# Altium footprint library RPSLib_PMIC.PcbLib: 19 footprints (part 2 of 2)
Each footprint in its own frame and in the unit in brackets; x right, y up, seen from the top. Pads: shape width x height; smd on the part's side, far side on the other; paste and mask are expansions set on the pad; w line width, h text height; cw(c..) or ccw(c..) is an arc to the next point about the centre after c.
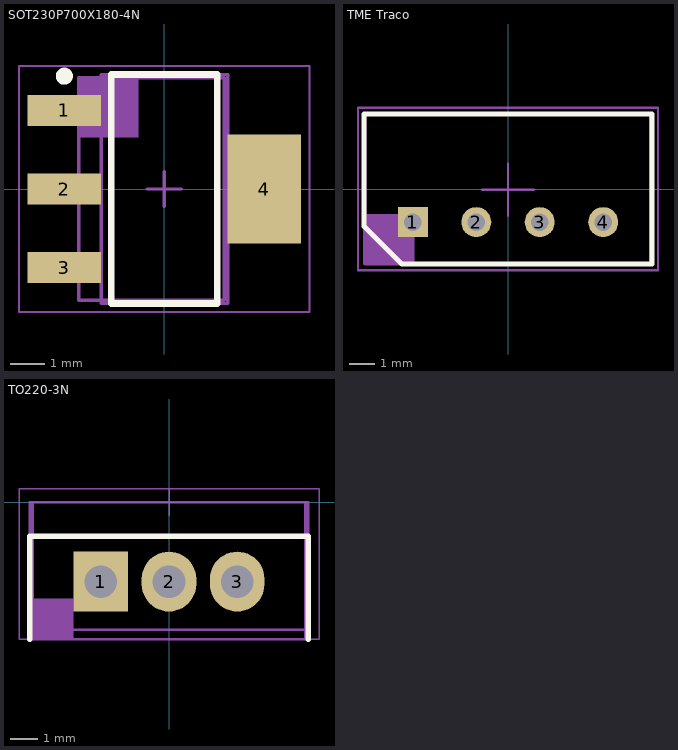
[diagram p1: the footprints below, top view; thin cyan lines are the x and y axes]

## SOT230P700X180-4N [mm] "SOT223, 4-Leads, Body 6,50x7,00mm (avg), Pitch 2,30mm, IPC Medium Density"
height 1.8
pads (4):
  rect 2.15x0.9 smd: 1(-2.925,2.3) 2(-2.925,0) 3(-2.925,-2.3)
  rect 2.15x3.2 smd: 4(2.925,0)
Top Overlay:
  circle w0.25: c-2.925,3.3 r0.125
  lines w0.2: -1.55,-3.35 -1.55,3.35 1.55,3.35 1.55,-3.35 -1.55,-3.35
Mechanical 1:
  rectangle: -2.5,1.5 -0.75,3.25
  lines w0.1: 1.75,-1.5 1.75,1.5 ; 1.75,-1.5 3.75,-1.5 3.75,1.5 1.75,1.5 ; 1.75,-1.5 1.75,-3.25 -2.5,-3.25 -2.5,3.25 1.75,3.25 1.75,1.5
  text ".Designator" at -1.126,-0.113 h0.5
Mechanical 13:
  lines w0.1: -1.85,-3.35 -1.85,3.35 1.85,3.35 1.85,-3.35 -1.85,-3.35
Mechanical 15:
  lines w0.05: -4.25,-3.6 -4.25,3.6 4.25,3.6 4.25,-3.6 -4.25,-3.6
  lines w0.1: -0.5,0 0.5,0 ; 0,-0.5 0,0.5
3D body "SOT230P700X180-4N.step": height 1.8, standoff 0, extent -3.5,-3.35 3.5,3.35

## TME Traco [mm] "DC DC Traco"
height 10.2
pads (4):
  rect 1.2x1.2 hole 0.7 mask+0.07: 1(-3.81,-1.325)
  round 1.2 hole 0.7 mask+0.07: 2(-1.27,-1.325) 3(1.27,-1.325) 4(3.81,-1.325)
Top Overlay:
  lines w0.2: -5.75,-1.5 -4.25,-3 5,-3 5.75,-3 5.75,3 -5.75,3 -5.75,-1.5
Mechanical 1:
  rectangle: -5.75,-3 -3.75,-1
  lines w0.1: -5.75,-3 -5.75,3 5.75,3 5.75,-3 -5.75,-3
  text ".Designator" at -1.126,-0.113 h0.5
Mechanical 13:
  lines w0.1: -5.7,-3 5.7,-3 5.7,3 -5.7,3 -5.7,-3
Mechanical 15:
  lines w0.1: -1.037,-0.037 1.037,-0.037 ; 0,-1.074 0,1 ; -6,-3.25 -6,3.25 6,3.25 6,-3.25 -6,-3.25
3D body "tme_1205s.stp": height 10.7, standoff -2.4, extent -5.7,-3 5.7,3

## TO220-3N [mm] "TO220, 3-Leads, Pitch 1.8mm, IPC Medium Density"
height 1.75
pads (3):
  rect 2x2.2 hole 1.2 mask+0.07: 1(-2.5,-2.91)
  oval 2x2.2 hole 1.2 mask+0.07: 2(0,-2.91) 3(2.5,-2.91)
Top Overlay:
  lines w0.2: -5.1,-5.025 -5.1,-1.25 5.1,-1.25 5.1,-5.025
Mechanical 1:
  rectangle: -5,-5.025 -3.5,-3.525
  lines w0.1: -5,-5.025 5,-5.025 5,0 -5,0 -5,-5.025
  text ".Designator" at -1.151,-2.913 h0.5
Mechanical 13:
  lines w0.1: -5.1,-1.275 5.1,-1.275 ; -5.1,-4.675 5.1,-4.675 5.1,0 -5.1,0 -5.1,-4.675
Mechanical 15:
  lines w0.05: -0.5,0 0.5,0 ; 0,-0.5 0,0.5 ; -5.5,-5.025 5.5,-5.025 5.5,0.5 -5.5,0.5 -5.5,-5.025
3D body "TO220-3.stp": height 18.75, standoff -9.75, extent -5.1,-4.675 5.1,0